# Altium schematic symbol library TMUX1108PWR.SchLib: 1 symbol
Pins are listed as number, name and electrical type; pins without a type are passive.

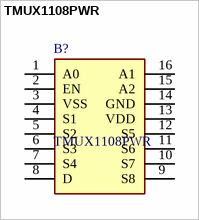
[diagram p0: symbol TMUX1108PWR]

## TMUX1108PWR
designator B?
Analog Switch ICs 5V / +/-2.5V, 8:1, low-leakage precision multiplexer 16-TSSOP -40 to 125; Manufacturer_Name: Texas Instruments; Geometry.Height: 1.2mm; Mouser Part Number: 595-TMUX1108PWR; Mouser Price/Stock: https://www.mouser.co.uk/ProductDetail/Texas-Instruments/TMUX1108PWR?qs=PqoDHHvF6486MXIgK4oQ5g%3D%3D; Manufacturer_Part_Number: TMUX1108PWR; Datasheet Link: http://www.ti.com/lit/ds/symlink/tmux1108.pdf
footprint SOP65P640X120-16N
pins: 1 A0, 2 EN, 3 VSS, 4 S1, 5 S2, 6 S3, 7 S4, 8 D, 9 S8, 10 S7, 11 S6, 12 S5, 13 VDD, 14 GND, 15 A2, 16 A1